# EAGLE library part MIC2026/76 (library micrel)
Dual USB Power Distribution Switch MIC2026/2076
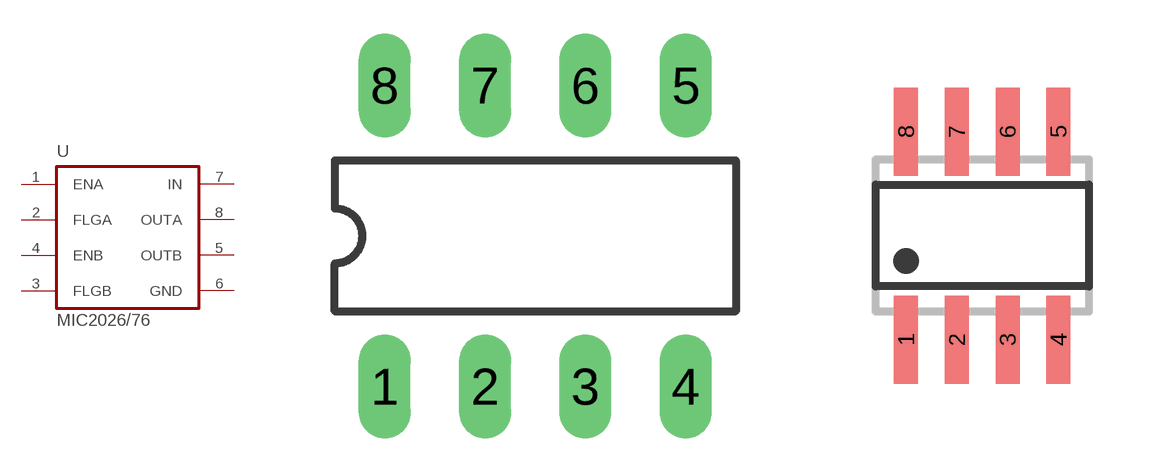
[diagram p1: symbol with the pads of DIL08; footprints DIL08, SO08]

Designator prefix U

## MIC2026/76BN  [DIL08]
1  ENA  in
2  FLGA  oc
3  FLGB  oc
4  ENB  in
5  OUTB  out
6  GND  pwr
7  IN  in
8  OUTA  out

## MIC2026/76BM  [SO08]
Pads as for DIL08

## Footprint DIL08 (pad centres in mm)
Dual In Line Package
drill 0.813 long: 1 -3.81,-3.81; 2 -1.27,-3.81; 3 1.27,-3.81; 4 3.81,-3.81; 5 3.81,3.81; 6 1.27,3.81; 7 -1.27,3.81; 8 -3.81,3.81

## Footprint SO08 (pad centres in mm)
SMALL OUTLINE INTEGRATED CIRCUIT body 3.9 mm/JEDEC MS-012AA
smd 0.6 x 2.2: 1 -1.905,-2.6; 2 -0.635,-2.6; 3 0.635,-2.6; 4 1.905,-2.6; 5 1.905,2.6; 6 0.635,2.6; 7 -0.635,2.6; 8 -1.905,2.6